# EAGLE library part OP213FSZ (library OP213FSZ)
OP213FSZ Source: Datasheet <https://datasheet.datasheetarchive.com/originals/distributors/SFDatasheet-4/sf-00085565.pdf>
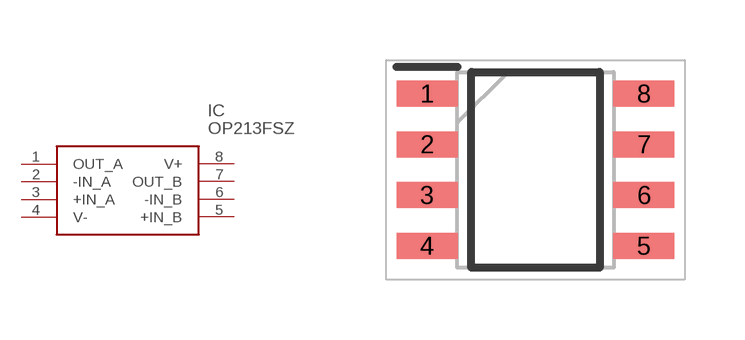
[diagram p0: symbol with the pads of SOIC127P600X175-8N; footprint SOIC127P600X175-8N]

Designator prefix IC

## OP213FSZ (Description: OP213FSZ; Height: 1.75mm; Manufacturer_Name: Analog Devices; Manufacturer_Part_Number: OP213FSZ; Mouser_Part_Number: 584-OP213FSZ; Mouser_Price-Stock: https://www.mouser.co.uk/ProductDetail/Analog-Devices/OP213FSZ?qs=WIvQP4zGanht4Vig9f9CDQ%3D%3D)  [SOIC127P600X175-8N]
1  OUT_A
2  -IN_A
3  +IN_A
4  V-
5  +IN_B
6  -IN_B
7  OUT_B
8  V+

## Footprint SOIC127P600X175-8N (pad centres in mm)
- [SOIC_N]-
smd 1.525 x 0.65: 1 -2.712,1.905; 2 -2.712,0.635; 3 -2.712,-0.635; 4 -2.712,-1.905; 5 2.712,-1.905; 6 2.712,-0.635; 7 2.712,0.635; 8 2.712,1.905